# EAGLE library part MEDULLA (library hurst)
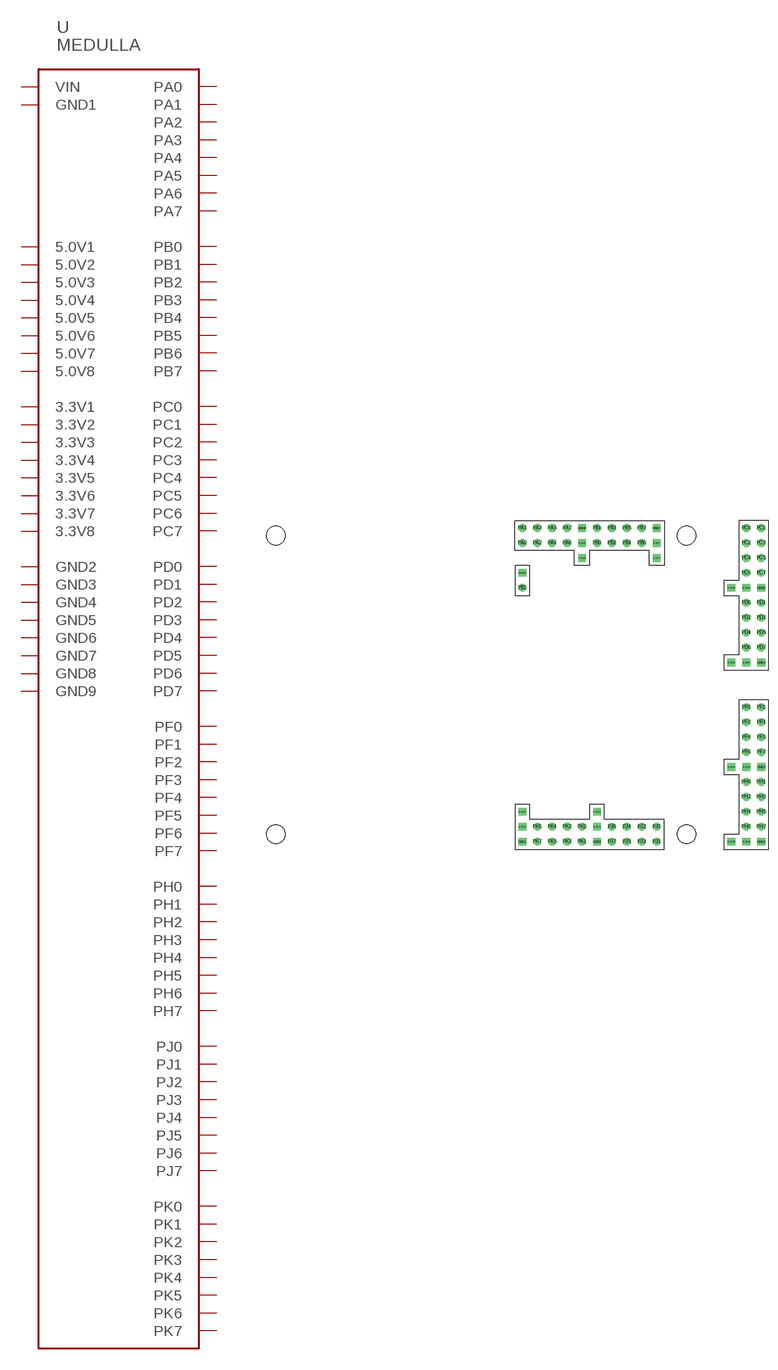
[diagram p0: symbol with the pads of MEDULLA; footprint MEDULLA]

Designator prefix -

## MEDULLA  [MEDULLA]
3.3V1  3.3V1
3.3V2  3.3V2
3.3V3  3.3V3
3.3V4  3.3V4
3.3V5  3.3V5
3.3V6  3.3V6
3.3V7  3.3V7
3.3V8  3.3V8
5.0V1  5.0V1
5.0V2  5.0V2
5.0V3  5.0V3
5.0V4  5.0V4
5.0V5  5.0V5
5.0V6  5.0V6
5.0V7  5.0V7
5.0V8  5.0V8
GND1  GND1
GND2  GND2
GND3  GND3
GND4  GND4
GND5  GND5
GND6  GND6
GND7  GND7
GND8  GND8
GND9'  GND9
P$1  VIN
PA0  PA0
PA1  PA1
PA2  PA2
PA3  PA3
PA4  PA4
PA5  PA5
PA6  PA6
PA7  PA7
PB0  PB0
PB1  PB1
PB2  PB2
PB3  PB3
PB4  PB4
PB5  PB5
PB6  PB6
PB7  PB7
PC0  PC0
PC1  PC1
PC2  PC2
PC3  PC3
PC4  PC4
PC5  PC5
PC6  PC6
PC7  PC7
PD0  PD0
PD1  PD1
PD2  PD2
PD3  PD3
PD4  PD4
PD5  PD5
PD6  PD6
PD7  PD7
PF0  PF0
PF1  PF1
PF2  PF2
PF3  PF3
PF4  PF4
PF5  PF5
PF6  PF6
PF7  PF7
PH0  PH0
PH1  PH1
PH2  PH2
PH3  PH3
PH4  PH4
PH5  PH5
PH6  PH6
PH7  PH7
PJ0  PJ0
PJ1  PJ1
PJ2  PJ2
PJ3  PJ3
PJ4  PJ4
PJ5  PJ5
PJ6  PJ6
PJ7  PJ7
PK0  PK0
PK1  PK1
PK2  PK2
PK3  PK3
PK4  PK4
PK5  PK5
PK6  PK6
PK7  PK7

## Footprint MEDULLA (pad centres in mm)
drill 0.8 pad 1.016 square: 3.3V1 45.72,5.08; 3.3V2 58.42,5.08; 3.3V3 83.82,2.54; 3.3V4 83.82,15.24; 3.3V5 83.82,33.02; 3.3V6 83.82,45.72; 3.3V7 68.58,53.34; 3.3V8 55.88,53.34; 5.0V1 45.72,7.62; 5.0V2 58.42,7.62; 5.0V3 81.28,2.54; 5.0V4 81.28,15.24; 5.0V5 81.28,33.02; 5.0V6 81.28,45.72; 5.0V7 68.58,50.8; 5.0V8 55.88,50.8; GND1 45.72,2.54; GND2 86.36,2.54; GND3 86.36,15.24; GND4 86.36,33.02; GND5 86.36,45.72; GND6 55.88,55.88; GND7 68.58,55.88; GND8 58.42,2.54; GND9' 45.72,48.26
drill 0.8 pad 1.016 octagon: P$1 45.72,45.72; PA0 45.72,53.34; PA1 45.72,55.88; PA2 48.26,53.34; PA3 48.26,55.88; PA4 50.8,53.34; PA5 50.8,55.88; PA6 53.34,53.34; PA7 53.34,55.88; PB0 58.42,53.34; PB1 58.42,55.88; PB2 60.96,53.34; PB3 60.96,55.88; PB4 63.5,53.34; PB5 63.5,55.88; PB6 66.04,53.34; PB7 66.04,55.88; PC0 83.82,55.88; PC1 86.36,55.88; PC2 83.82,53.34; PC3 86.36,53.34; PC4 83.82,50.8; PC5 86.36,50.8; PC6 83.82,48.26; PC7 86.36,48.26; PD0 83.82,43.18; PD1 86.36,43.18; PD2 83.82,40.64; PD3 86.36,40.64; PD4 83.82,38.1; PD5 86.36,38.1; PD6 83.82,35.56; PD7 86.36,35.56; PF0 83.82,25.4; PF1 86.36,25.4; PF2 83.82,22.86; PF3 86.36,22.86; PF4 83.82,20.32; PF5 86.36,20.32; PF6 83.82,17.78; PF7 86.36,17.78; PH0 83.82,12.7; PH1 86.36,12.7; PH2 83.82,10.16; PH3 86.36,10.16; PH4 83.82,7.62; PH5 86.36,7.62; PH6 83.82,5.08; PH7 86.36,5.08; PJ0 68.58,5.08; PJ1 68.58,2.54; PJ2 66.04,5.08; PJ3 66.04,2.54; PJ4 63.5,5.08; PJ5 63.5,2.54; PJ6 60.96,5.08; PJ7 60.96,2.54; PK0 55.88,5.08; PK1 55.88,2.54; PK2 53.34,5.08; PK3 53.34,2.54; PK4 50.8,5.08; PK5 50.8,2.54; PK6 48.26,5.08; PK7 48.26,2.54
hole 3.175 at 3.81,54.61
hole 3.175 at 3.81,3.81
hole 3.175 at 73.66,3.81
hole 3.175 at 73.66,54.61